# EAGLE library part LIS2HH12 (library pimoroni-ics)
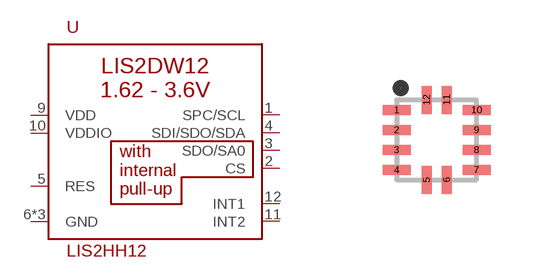
[diagram p41: symbol with the pads of LGA-12; footprint LGA-12]

Designator prefix -

## LIS2HH12  [LGA-12]
1  SPC/SCL
2  CS
3  SDO/SA0
4  SDI/SDO/SDA
5  RES
6  GND
7  GND
8  GND
9  VDD
10  VDDIO
11  INT2
12  INT1

## Footprint LGA-12 (pad centres in mm)
smd 0.7 x 0.25: 1 -1,0.75; 2 -1,0.25; 3 -1,-0.25; 4 -1,-0.75; 7 1,-0.75; 8 1,-0.25; 9 1,0.25; 10 1,0.75
smd 0.25 x 0.7: 5 -0.25,-1; 6 0.25,-1; 11 0.25,1; 12 -0.25,1